# Altium schematic symbol library Sch_MCC.SchLib: 1 symbol
Pins are listed as number, name and electrical type; pins without a type are passive.

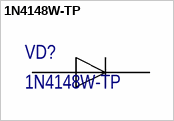
[diagram p0: symbol 1N4148W-TP]

## 1N4148W-TP
designator VD?
400mW High Speed Switching Diode; Manufacturer: Micro Commercial Components; Part Number: 1N4148W-TP
footprint SOD123
pins: 1, 2